# EAGLE library part MOLEX_5025850670 (library Steering)
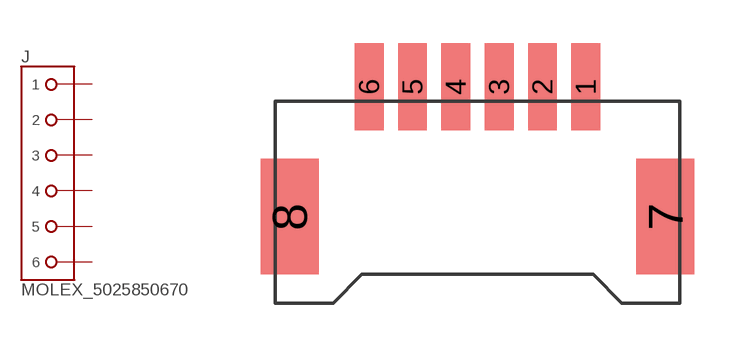
[diagram p0: symbol with the pads of MOLEX_5025850670; footprint MOLEX_5025850670]

Designator prefix J

## MOLEX_5025850670  [MOLEX_5025850670]
1  1  pas
2  2  pas
3  3  pas
4  4  pas
5  5  pas
6  6  pas

## Footprint MOLEX_5025850670 (pad centres in mm)
Molex 5055850670 PCB-Mount Connector
smd 1 x 3: 1 3.75,3.5; 2 2.25,3.5; 3 0.75,3.5; 4 -0.75,3.5; 5 -2.25,3.5; 6 -3.75,3.5
smd 2 x 4: 7 6.5,-1; 8 -6.5,-1